# EAGLE library part 99NONSTANDARD_PQ2020_THT_V_14PIN (library Wurth Electronics Midcom Inc V1-0)
Package Style: Standard PQ2016 Mounting: THT Pins: 14 pins Bobbin: 070-5250 Best pinouts for production vary per application. Please contact Wurth Electronics Midcom, Inc. for assistance with your custom design. Website: Wurth Electronics Midcom <http://www.we-online.com/midcom> Contact us Wurth Electronics Midcom, Inc. 121 Airport Dr. Watertown, SD 57201 Phone: (605) 886-4385 Fax: (605) 886-4486 E-Mail: midcom@we-online.com
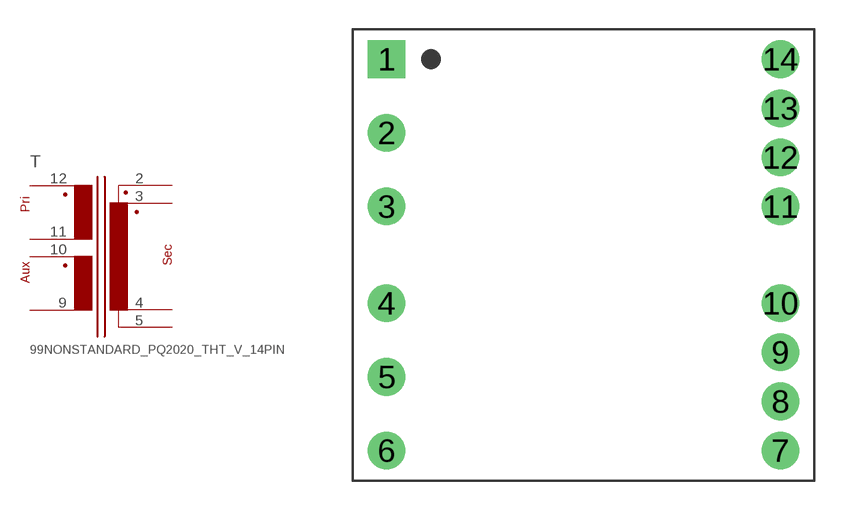
[diagram p194: symbol with the pads of 99NONSTANDARD_PQ2020_THT_V_14PIN; footprint 99NONSTANDARD_PQ2020_THT_V_14PIN]

Designator prefix T

## 99NONSTANDARD_PQ2020_THT_V_14PIN  [99NONSTANDARD_PQ2020_THT_V_14PIN]
2  5  pas
3  7  pas
4  8  pas
5  6  pas
9  4  pas
10  3  pas
11  2  pas
12  1  pas

## Footprint 99NONSTANDARD_PQ2020_THT_V_14PIN (pad centres in mm)
Package Style: Speedy PQ2020 Mounting: THT Pins: 14 pins Bobbin: 070-5250
drill 1.295 square: 1 -10.173,10.122
drill 1.295 round: 2 -10.173,6.312; 3 -10.173,2.502; 4 -10.173,-2.502; 5 -10.173,-6.312; 6 -10.173,-10.122; 7 10.173,-10.122; 8 10.173,-7.582; 9 10.173,-5.042; 10 10.173,-2.502; 11 10.173,2.502; 12 10.173,5.042; 13 10.173,7.582; 14 10.173,10.122